# Altium footprint library Steering_Wheel.PcbLib: 9 footprints
Each footprint in its own frame and in the unit in brackets; x right, y up, seen from the top. Pads: shape width x height; smd on the part's side, far side on the other; paste and mask are expansions set on the pad; w line width, h text height; cw(c..) or ccw(c..) is an arc to the next point about the centre after c.
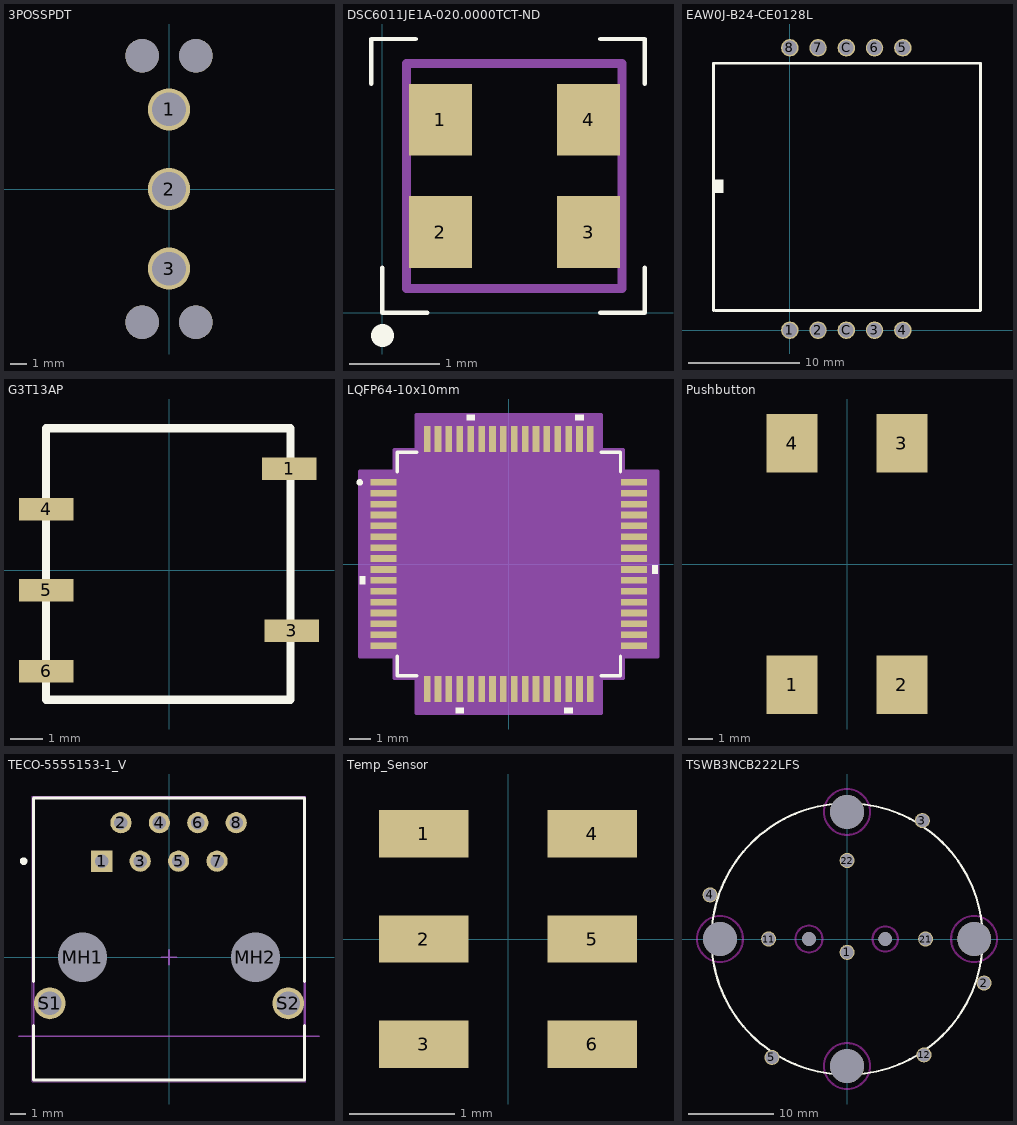
[diagram p0: the footprints below, top view; thin cyan lines are the x and y axes]

## 3POSSPDT [mil] "100SP3T2B4M2QE-ND"
pads (7):
  round 98 hole 78: 1(0,185.04) 2(0,0) 3(0,-185.04)
  round 78 hole 78: ""(-62.6,310.04) ""(-62.6,-310.04) ""(62.6,-310.04) ""(62.6,310.04)

## DSC6011JE1A-020.0000TCT-ND [mm] "4-Lead Very Thin Land Grid Array (AUA) - 2.5x2.0 mm Body [VLGA]"
height 0.89
pads (4):
  rect 0.7x0.8 smd: 1(0.645,2.149) 2(0.645,0.899) 3(2.295,0.899) 4(2.295,2.149)
Top Overlay:
  lines w0.05: -0.127,2.548 -0.127,3.048 0.373,3.048 ; 0,0.5 0,0 0.5,0 ; 2.421,0 2.921,0 2.921,0.5 ; 2.421,3.048 2.921,3.048 2.921,2.548
  lines w0.254: 0,-0.254 cw(c0.036,-0.254) 0,-0.253
Mechanical 13:
  lines w0.1: 0.27,0.274 2.667,0.274 2.667,2.774 0.27,2.774 0.27,0.274
3D body: height 0.89, standoff 0.02, extent 0.27,0.274 2.667,2.774

## EAW0J-B24-CE0128L [mil] "ROTARY ENCODER MECHANICAL 128PPR"
pads (10):
  round 62 hole 52: 1(0,0) 2(100,0) 3(300,0) 4(400,0) 5(400,1000) 6(300,1000) 7(100,1000) 8(0,1000) C(200,0) C(200,1000)
Top Overlay:
  region: -270,487.5 -270,532.5 -235,532.5 -235,487.5
  lines w10: -270.16,945 675,945 ; -270,70 -270,944.02 ; -265,70 675.16,70 ; 675,70 675,944.02

## G3T13AP [mm] "SWITCH TOGGLE SPDT 0.4VA 28V"
pads (5):
  rect 1.7x0.7 all layers, no hole: 1(3.77,3.175) 3(3.85,-1.905) 4(-3.85,1.905) 5(-3.85,-0.635) 6(-3.85,-3.175)
Top Overlay:
  lines w0.254: -3.85,4.445 -3.85,-4.064 3.81,-4.064 ; -3.83,4.445 3.77,4.445 ; 3.81,-4.055 3.81,4.445

## LQFP64-10x10mm [mm]
pads (64):
  rect 1.194x0.305 smd paste+0 mask+0: 1(-5.75,3.75) 2(-5.75,3.25) 3(-5.75,2.75) 4(-5.75,2.25) 5(-5.75,1.75) 6(-5.75,1.25) 7(-5.75,0.75) 8(-5.75,0.25) 9(-5.75,-0.25) 10(-5.75,-0.75) 11(-5.75,-1.25) 12(-5.75,-1.75) 13(-5.75,-2.25) 14(-5.75,-2.75) 15(-5.75,-3.25) 16(-5.75,-3.75) 33(5.75,-3.75) 34(5.75,-3.25) 35(5.75,-2.75) 36(5.75,-2.25) 37(5.75,-1.75) 38(5.75,-1.25) 39(5.75,-0.75) 40(5.75,-0.25) 41(5.75,0.25) 42(5.75,0.75) 43(5.75,1.25) 44(5.75,1.75) 45(5.75,2.25) 46(5.75,2.75) 47(5.75,3.25) 48(5.75,3.75)
  rect 0.305x1.194 smd paste+0 mask+0: 17(-3.75,-5.75) 18(-3.25,-5.75) 19(-2.75,-5.75) 20(-2.25,-5.75) 21(-1.75,-5.75) 22(-1.25,-5.75) 23(-0.75,-5.75) 24(-0.25,-5.75) 25(0.25,-5.75) 26(0.75,-5.75) 27(1.25,-5.75) 28(1.75,-5.75) 29(2.25,-5.75) 30(2.75,-5.75) 31(3.25,-5.75) 32(3.75,-5.75) 49(3.75,5.75) 50(3.25,5.75) 51(2.75,5.75) 52(2.25,5.75) 53(1.75,5.75) 54(1.25,5.75) 55(0.75,5.75) 56(0.25,5.75) 57(-0.25,5.75) 58(-0.75,5.75) 59(-1.25,5.75) 60(-1.75,5.75) 61(-2.25,5.75) 62(-2.75,5.75) 63(-3.25,5.75) 64(-3.75,5.75)
Top Overlay:
  circle w0.152: c-6.851,3.75 r0.076
  region: -6.601,-0.56 -6.855,-0.56 -6.855,-0.941 -6.601,-0.941
  region: -2.06,-6.601 -2.441,-6.601 -2.441,-6.855 -2.06,-6.855
  region: 2.94,-6.601 2.559,-6.601 2.559,-6.855 2.94,-6.855
  region: 6.601,-0.059 6.855,-0.059 6.855,-0.44 6.601,-0.44
  region: 3.441,6.601 3.06,6.601 3.06,6.855 3.441,6.855
  region: -1.559,6.601 -1.94,6.601 -1.94,6.855 -1.559,6.855
  lines w0.152: -5.131,-4.234 -5.131,-5.131 -4.234,-5.131 ; -5.131,4.234 -5.131,5.131 -4.234,5.131 ; 4.234,-5.131 5.131,-5.131 5.131,-4.234 ; 4.234,5.131 5.131,5.131 5.131,4.234
Mechanical 13:
  circle w0: c-4.518,3.75 r0.076
  lines w0.025: -5.004,3.734 -3.734,5.004 ; -5.004,-5.004 5.004,-5.004 5.004,5.004 -5.004,5.004 -5.004,-5.004
Mechanical 15:
  region: -4.258,-5.258 -5.258,-5.258 -5.258,-4.258 -6.855,-4.258 -6.855,4.258 -5.258,4.258 -5.258,5.258 -4.258,5.258 -4.258,6.855 4.258,6.855 4.258,5.258 5.258,5.258 5.258,4.258 6.855,4.258 6.855,-4.258 5.258,-4.258 5.258,-5.258 4.258,-5.258 4.258,-6.855 -4.258,-6.855
  lines w0.152: -6.855,-4.258 -5.258,-4.258 -5.258,-5.258 -4.258,-5.258 -4.258,-6.855 4.258,-6.855 4.258,-5.258 5.258,-5.258 5.258,-4.258 6.855,-4.258 6.855,4.258 5.258,4.258 5.258,5.258 4.258,5.258 4.258,6.855 -4.258,6.855 -4.258,5.258 -5.258,5.258 -5.258,4.258 -6.855,4.258 -6.855,-4.258
3D body: height 0.25, standoff 0, extent 0,0 0.254,0.254

## Pushbutton [mm] "K12SCS1.55NOLFTX"
pads (4):
  rect 2.1x2.4 smd: 1(-2.25,-4.95) 2(2.25,-4.95) 3(2.25,4.95) 4(-2.25,4.95)

## TECO-5555153-1_V [mm] "RJ45, 8-Leads, Body 18.67x17.91mm, Pitch 1.27mm"
height 13.08
pads (12):
  rect 1.4x1.4 hole 0.89: 1(-4.445,6.35)
  round 1.4 hole 0.89: 2(-3.175,8.89) 3(-1.905,6.35) 4(-0.635,8.89) 5(0.635,6.35) 6(1.905,8.89) 7(3.175,6.35) 8(4.445,8.89)
  round 2.95 hole 3.25 unplated: MH1(-5.715,0) MH2(5.715,0)
  round 2.1 hole 1.57: S1(-7.875,-3.05) S2(7.875,-3.05)
Top Overlay:
  circle w0.25: c-9.605,6.35 r0.125
  lines w0.2: -8.955,-4.5 -8.955,-8.13 8.955,-8.13 8.955,-4.5 ; -8.955,-1.6 -8.955,10.54 8.955,10.54 8.955,-1.6
Mechanical 1:
  lines w0.1: -9.915,-5.21 9.915,-5.21
  text "PCB Edge" at 9.915,-5.02 h0.75
Mechanical 13:
  lines w0.1: -8.955,-8.13 -8.955,10.54 8.955,10.54 8.955,-8.13 -8.955,-8.13
Mechanical 15:
  lines w0.05: -9.055,-8.23 -9.055,10.64 9.055,10.64 9.055,-8.23 -9.055,-8.23
  lines w0.1: -0.5,0 0.5,0 ; 0,-0.5 0,0.5
3D body "c-5555153-1-c-3d.stp": height 13.2, standoff -4.13, extent -8.89,-8.13 8.89,10.539

## Temp_Sensor [mm] "Si7000-A20 Temperature and Humidity Sensor"
pads (6):
  rect 0.85x0.45 smd: 1(-0.8,1) 2(-0.8,0) 3(-0.8,-1) 4(0.8,1) 5(0.8,0) 6(0.8,-1)

## TSWB3NCB222LFS [mm] "SWITCH NAVIGATION SCROLL"
pads (15):
  round 1.778 hole 1.524: 1(0,-1.57) 2(16.16,-5.2) 3(8.87,13.97) 4(-16.16,5.2) 5(-8.87,-13.97) 11(-9.26,0) 12(9.07,-13.67) 21(9.26,0) 22(0,9.26)
  round 4 hole 4: ""(-15,0) ""(0,-15) ""(0,15) ""(15,0)
  round 1.6 hole 1.6: ""(-4.5,0) ""(4.5,0)
Top Overlay:
  circle w0.254: c0,0 r16
Keep-Out Layer:
  circle w0.254: c-4.5,0 r1.584
  circle w0.254: c4.5,0 r1.491
  circle w0.254: c-0.014,-14.986 r2.709
  circle w0.254: c14.972,0 r2.709
  circle w0.254: c-0.014,14.986 r2.709
  circle w0.254: c-15,0 r2.709